# Altium integrated library Linear Technology Power Management PMIC Multifunction.IntLib: 360 symbols (part 25 of 42)
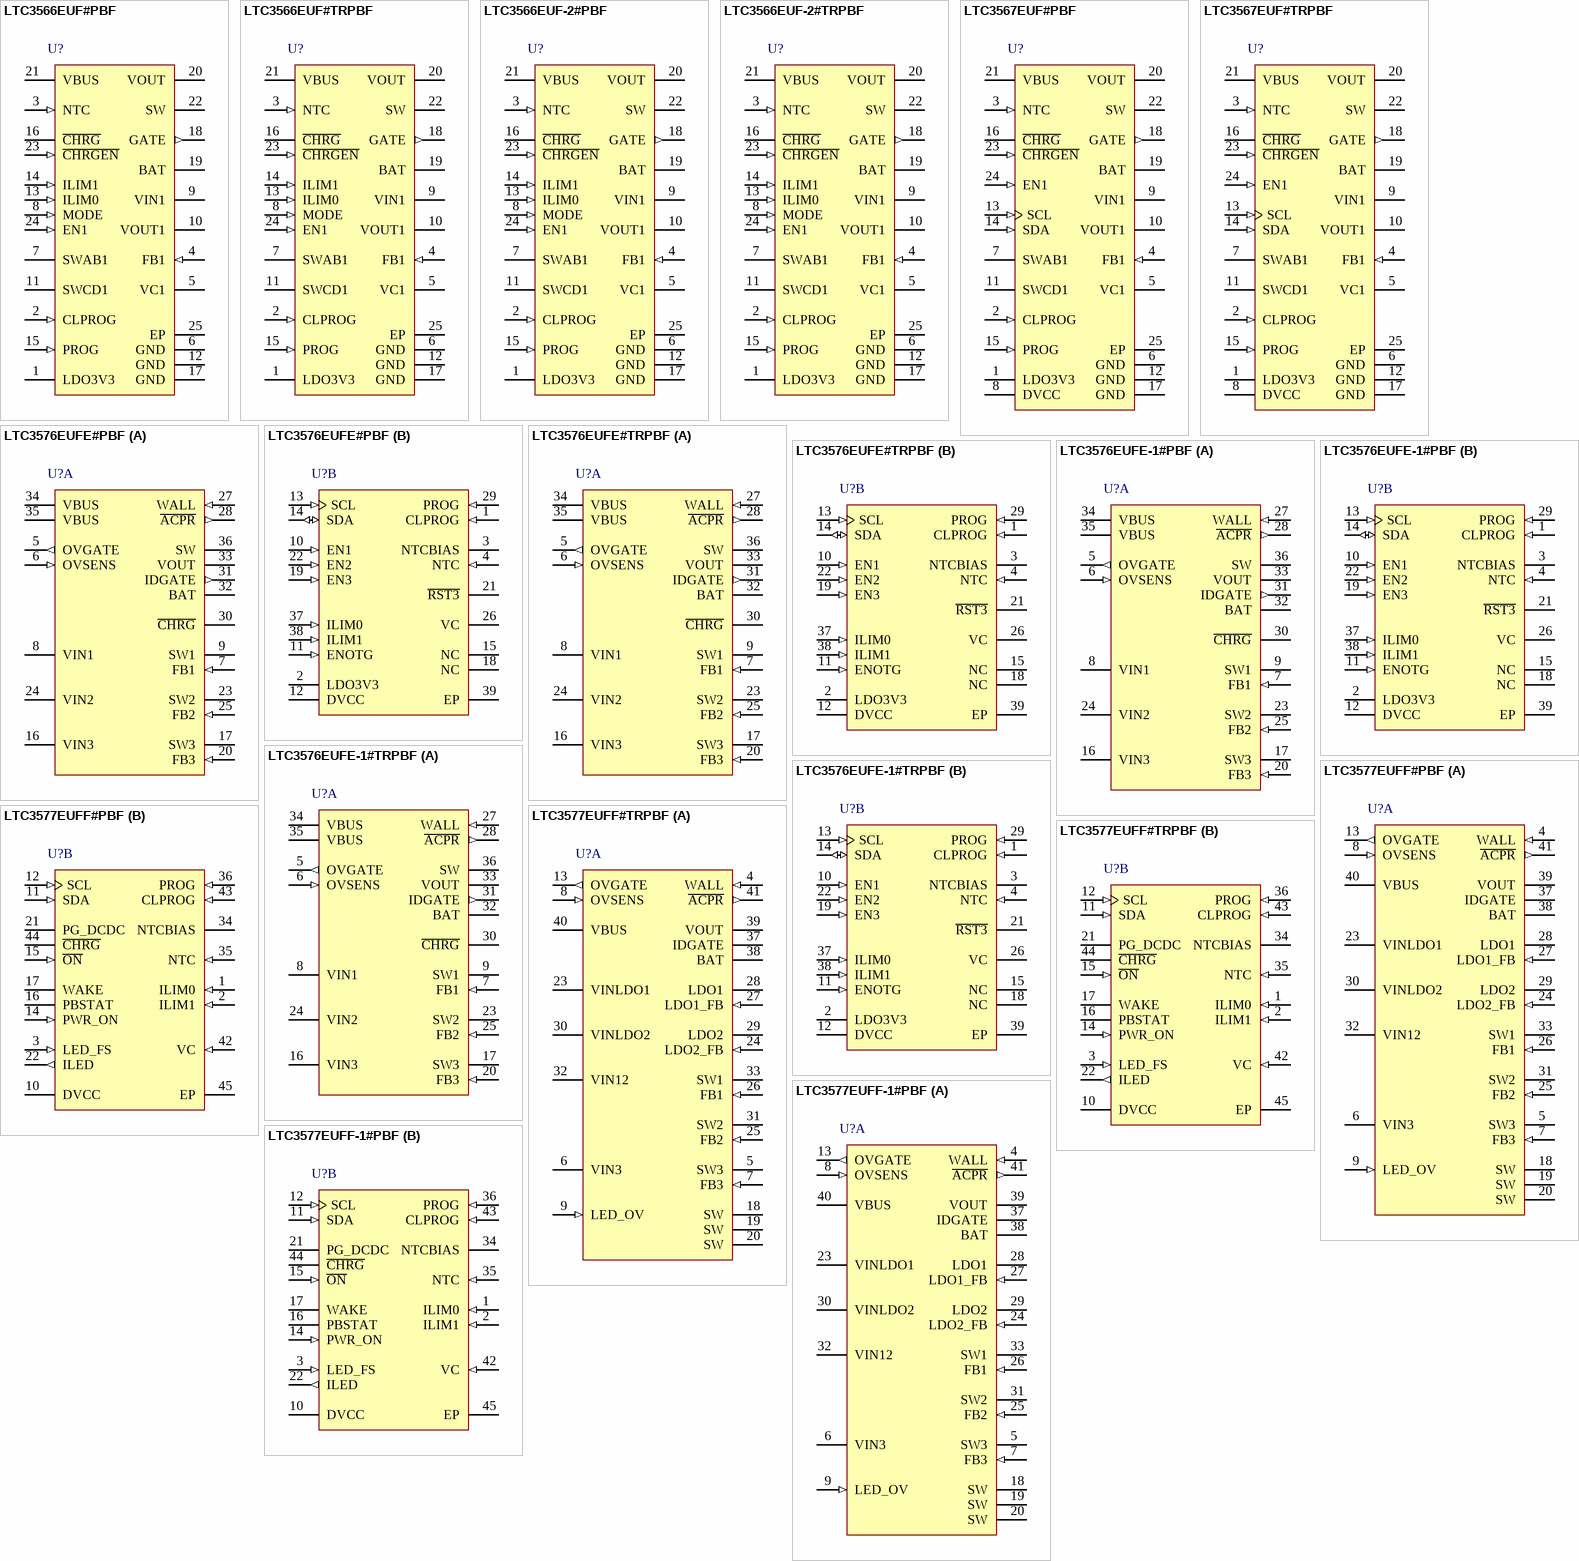
[diagram p42: symbols LTC3566EUF#PBF to LTC3577EUFF-1#PBF]

## LTC3576EUFE-1#PBF
designator U?
Switching Power Manager with USB On-The-Go + Triple Step-Down DC/DC, 4.35 to 5.5 V Vin, 38-pin QFN (UFE-38), -40 to 85 degC, Pb-Free; Manufacturer: Linear Technology; PartNumber: LTC3576EUFE-1#PBF; Number of Cells: 1; Number of Outputs: 3; Vin Max(V): 5.5; Vin Min(V): 4.35; DatasheetVersion: Rev. B; PackageVersion: Rev. B, 03/2012; PackageReference: UFE-38; PackageDescription: 38-Pin Plastic QFN, Body 4 x 6 mm, Pitch 0.4 mm; Supplier 1: Digi-Key; Supplier Part Number 1: LTC3576EUFE-1#PBF-ND; Supplier 2: Farnell; Supplier Part Number 2: 1673551; Supplier 3: Farnell; Supplier Part Number 3: 1671954; Supplier 4: Newark; Supplier Part Number 4: 12P6565; RoHS: TRUE; Mounting Technology: Surface Mount; ComponentLink1Description: Manufacturer URL; ComponentLink1URL: http://www.linear.com/; ComponentLink2Description: Datasheet; ComponentLink2URL: http://cds.linear.com/docs/en/datasheet/3576fb.pdf; ComponentLink3Description: Package Specification; ComponentLink3URL: http://cds.linear.com/docs/en/datasheet/358623f.pdf
footprint LT-UFE-38_N (QFN, 38-Leads, Body 6.1x4.1mm, Pitch 0.4mm, Thermal Pad 2.65x4.65mm, IPC Medium Density)
footprint LT-UFE-38_L (QFN, 38-Leads, Body 6.1x4.1mm, Pitch 0.4mm, Thermal Pad 2.65x4.65mm, IPC High Density)
footprint LT-UFE-38_M (QFN, 38-Leads, Body 6.1x4.1mm, Pitch 0.4mm, Thermal Pad 2.65x4.65mm, IPC Low Density)
part A pins: 5 OVGATE (out) "Overvoltage Protection Gate Output. Connect OVGATE to the gate pin of an external N-channel MOS pass transistor. The source of the transistor should be connected to VBUS and the drain should be connected to the product’(See Datasheet)", 6 OVSENS (in) "Overvoltage Protection Sense Input. OVSENS should be connected through a 6.2k resistor to the input power connector and the drain of an external N-channel MOS pass transistor. When the voltage on this pin exceeds VOVCUTOFF, (See Datasheet)", 7 FB1 (in) "Feedback Input for Switching Regulator 1. When regulator 1’s control loop is complete, this pin servos to 1 of 16 possible set points based on the commanded value from the I2C serial port.", 8 VIN1 (power) "Power Input for Switching Regulator 1. This pin will generally be connected to VOUT. A 1uF MLCC capacitor is recommended on this pin.", 9 SW1 "Power Transmission Pin for Switching Regulator 1.", 16 VIN3 (power) "Power Input for Switching Regulator 3. This pin will generally be connected to VOUT. A 1uF MLCC capacitor is recommended on this pin.", 17 SW3 "Power Transmission Pin for Switching Regulator 3.", 20 FB3 (in) "Feedback Input for Switching Regulator 3. When regulator 3’s control loop is complete, this pin servos to 1 of 16 possible set points based on the commanded value from the I2C serial port.", 23 SW2 "Power Transmission Pin for Switching Regulator 2.", 24 VIN2 (power) "Power Input for Switching Regulator 2. This pin will generally be connected to VOUT. A 1uF MLCC capacitor is recommended on this pin.", 25 FB2 (in) "Feedback Input for Switching Regulator 2. When regulator 2’s control loop is complete, this pin servos to 1 of 16 possible set points based on the commanded value from the I2C serial port.", 27 WALL (in) "External Power Source Sense Input. WALL should be connected to the output of the external high voltage switching regulator and to the drain of an external P-channel MOSFET if used. It is used to determine when power is (See Datasheet)", 28 ~{ACPR} (out) "External Power Source Present Output (Active Low). A\C\P\R\ indicates that the output of the external high voltage step-down switching regulator is suitable for use by the LTC3576/LTC3576-1. It should be connected to the (See Datasheet)", 30 ~{CHRG} (hiz) "Open-Drain Charge Status Output. The C\H\R\G\ pin indicates the status of the battery charger. Four possible charger states are represented by C\H\R\G\: charging, not charging, unresponsive battery and battery temperature (See Datasheet)", 31 IDGATE (out) "Ideal Diode Amplifier Output. This pin controls the gate of an optional external P-channel MOSFET used as an ideal diode between VOUT and BAT. The external ideal diode operates in parallel with the internal ideal diode. The (See Datasheet)", 32 BAT (power) "Single Cell Li-Ion Battery Pin. Depending on available VBUS power, a Li-Ion battery on BAT will either deliver power to VOUT through the ideal diode or be charged from VOUT via the battery charger.", 33 VOUT (power) "Output Voltage of the Bidirectional PowerPath Switching Regulator in step-down mode and Input Voltage of the Battery Charger. The majority of the portable product should be powered from VOUT. The LTC3576/LTC3576-1 will (See Datasheet)", 34 VBUS (power) "Power Pins. These pins deliver power to VOUT via the SW pin by drawing controlled current from a DC source such as a USB port or DC output wall adapter. In on-the-go mode these pins provide power to external loads. Tie the (See Datasheet)", 35 VBUS (power) "Power Pins. These pins deliver power to VOUT via the SW pin by drawing controlled current from a DC source such as a USB port or DC output wall adapter. In on-the-go mode these pins provide power to external loads. Tie the (See Datasheet)", 36 SW (power) "The SW pin transfers power between VBUS and VOUT via the bidirectional switching regulator. See the Applications Information section for a discussion of inductance value and current rating."
part B pins: 1 CLPROG (in) "USB Current Limit Program and Monitor Pin. A 1% resistor from CLPROG to ground determines the upper limit of the current drawn or sourced from the VBUS pins. A precise fraction, hCLPROG, of the VBUS current is sent to the (See Datasheet)", 2 LDO3V3 (power) "3.3V LDO Output Pin. This pin provides a regulated always-on 3.3V supply voltage. LDO3V3 gets its power from VOUT. It may be used for light loads such as a watchdog microprocessor or real time clock. A 1uF capacitor is (See Datasheet)", 3 NTCBIAS "NTC Thermistor Bias Output. If NTC operation is desired, connect a bias resistor between NTCBIAS and NTC, and an NTC thermistor between NTC and GND. To disable NTC operation, connect NTC to GND and leave NTCBIAS open.", 4 NTC (in) "Input to the Thermistor Monitoring Circuits. The NTC pin connects to a negative temperature coeffi cient thermistor, which is typically co-packaged with the battery, to determine if the battery is too hot or too cold to (See Datasheet)", 10 EN1 (in) "Logic Input. This logic input pin independently enables switching regulator 1. Active high. This pin is logically ORed with its corresponding bit in the I2C serial port. See Table 3. Has a 2uA internal pull-down current (See Datasheet)", 11 ENOTG (in) "Logic Input. This logic input pin independently enables the bidirectional switching regulator to step up the voltage on VOUT and provide a 5V output on VBUS for USB on-the-go applications. Active high. This pin is logically (See Datasheet)", 12 DVCC (power) "Logic Supply for the I2C Serial Port. If the serial port is not needed, it can be disabled by grounding DVCC. When DVCC is grounded, the I2C bits are set to their default values.", 13 SCL (in) "Clock Input Pin for the I2C Serial Port. The I2C logic levels are scaled with respect to DVCC. If DVCC is grounded, the SCL pin is equivalent to the C2, C4 and C6 bits in the I2C serial port. SCL in conjunction with SDA (See Datasheet)", 14 SDA (io) "Data Input Pin for the I2C Serial Port. The I2C logic levels are scaled with respect to DVCC. If DVCC is grounded, the SDA pin is equivalent to the C3, C5 and C7 bits in the I2C serial port. SDA in conjunction with SCL (See Datasheet)", 15 NC "Unconnected Pin. This pin is not connected internally to the part. It is permissible to tie this pin to VIN3 in order to make the VIN3 PCB trace wider.", 18 NC "Unconnected Pin. This pin is not connected internally to the part. It is permissible to tie this pin to SW3 in order to make the SW3 PCB trace wider.", 19 EN3 (in) "Logic Input. This logic input pin independently enables switching regulator 3. Active high. This pin is logically ORed with its corresponding bit in the I2C serial port. See Table 3. Has a 2uA internal pull-down current (See Datasheet)", 21 ~{RST3} (hiz) "Logic Output. This in an open-drain output which indicates that switching regulator 3 has settled to its fi nal value. It can be used as a power-on reset for the primary microprocessor or to enable the other switching (See Datasheet)", 22 EN2 (in) "Logic Input. This logic input pin independently enables switching regulator 2. Active high. This pin is logically ORed with its corresponding bit in the I2C serial port. See Table 3. Has a 2uA internal pull-down current (See Datasheet)", 26 VC "Bat-Track External Switching Regulator Control Output. This pin drives the VC pin of an external Linear Technology step-down switching regulator. An external P-channel MOSFET is sometimes required to provide power to VOUT (See Datasheet)", 29 PROG (in) "Charge Current Program and Charge Current Monitor Pin. Connecting a 1% resistor from PROG to ground programs the charge current. If suffi cient input power is available in constant-current mode, this pin servos to 1V.", 37 ILIM0 (in) "ILIM0 and ILIM1 control the current limit of the PowerPath switching regulator. See Table 1. Both the ILIM0 and ILIM1 pins are logically ORed with their corresponding bits in the I2C serial port. See Tables 3 and 6. Each has (See Datasheet)", 38 ILIM1 (in) "ILIM0 and ILIM1 control the current limit of the PowerPath switching regulator. See Table 1. Both the ILIM0 and ILIM1 pins are logically ORed with their corresponding bits in the I2C serial port. See Tables 3 and 6. Each has (See Datasheet)", 39 EP (power) "Ground. The Exposed Pad should be connected to a continuous ground plane on the second layer of the printed circuit board by several vias directly under the LTC3576/LTC3576-1."

## LTC3576EUFE-1#TRPBF
designator U?
Switching Power Manager with USB On-The-Go + Triple Step-Down DC/DC, 4.35 to 5.5 V Vin, 38-pin QFN (UFE-38), -40 to 85 degC, Pb-Free, Tape and Reel; Manufacturer: Linear Technology; PartNumber: LTC3576EUFE-1#TRPBF; Number of Cells: 1; Number of Outputs: 3; Vin Max(V): 5.5; Vin Min(V): 4.35; DatasheetVersion: Rev. B; PackageVersion: Rev. B, 03/2012; PackageReference: UFE-38; PackageDescription: 38-Pin Plastic QFN, Body 4 x 6 mm, Pitch 0.4 mm; Supplier 1: Digi-Key; Supplier Part Number 1: LTC3576EUFE-1#TRPBF-ND; Packing: Tape and Reel; RoHS: TRUE; Mounting Technology: Surface Mount; ComponentLink1Description: Manufacturer URL; ComponentLink1URL: http://www.linear.com/; ComponentLink2Description: Datasheet; ComponentLink2URL: http://cds.linear.com/docs/en/datasheet/3576fb.pdf; ComponentLink3Description: Package Specification; ComponentLink3URL: http://cds.linear.com/docs/en/datasheet/358623f.pdf
footprint LT-UFE-38_N (QFN, 38-Leads, Body 6.1x4.1mm, Pitch 0.4mm, Thermal Pad 2.65x4.65mm, IPC Medium Density)
footprint LT-UFE-38_L (QFN, 38-Leads, Body 6.1x4.1mm, Pitch 0.4mm, Thermal Pad 2.65x4.65mm, IPC High Density)
footprint LT-UFE-38_M (QFN, 38-Leads, Body 6.1x4.1mm, Pitch 0.4mm, Thermal Pad 2.65x4.65mm, IPC Low Density)
part A pins: 5 OVGATE (out) "Overvoltage Protection Gate Output. Connect OVGATE to the gate pin of an external N-channel MOS pass transistor. The source of the transistor should be connected to VBUS and the drain should be connected to the product’(See Datasheet)", 6 OVSENS (in) "Overvoltage Protection Sense Input. OVSENS should be connected through a 6.2k resistor to the input power connector and the drain of an external N-channel MOS pass transistor. When the voltage on this pin exceeds VOVCUTOFF, (See Datasheet)", 7 FB1 (in) "Feedback Input for Switching Regulator 1. When regulator 1’s control loop is complete, this pin servos to 1 of 16 possible set points based on the commanded value from the I2C serial port.", 8 VIN1 (power) "Power Input for Switching Regulator 1. This pin will generally be connected to VOUT. A 1uF MLCC capacitor is recommended on this pin.", 9 SW1 "Power Transmission Pin for Switching Regulator 1.", 16 VIN3 (power) "Power Input for Switching Regulator 3. This pin will generally be connected to VOUT. A 1uF MLCC capacitor is recommended on this pin.", 17 SW3 "Power Transmission Pin for Switching Regulator 3.", 20 FB3 (in) "Feedback Input for Switching Regulator 3. When regulator 3’s control loop is complete, this pin servos to 1 of 16 possible set points based on the commanded value from the I2C serial port.", 23 SW2 "Power Transmission Pin for Switching Regulator 2.", 24 VIN2 (power) "Power Input for Switching Regulator 2. This pin will generally be connected to VOUT. A 1uF MLCC capacitor is recommended on this pin.", 25 FB2 (in) "Feedback Input for Switching Regulator 2. When regulator 2’s control loop is complete, this pin servos to 1 of 16 possible set points based on the commanded value from the I2C serial port.", 27 WALL (in) "External Power Source Sense Input. WALL should be connected to the output of the external high voltage switching regulator and to the drain of an external P-channel MOSFET if used. It is used to determine when power is (See Datasheet)", 28 ~{ACPR} (out) "External Power Source Present Output (Active Low). A\C\P\R\ indicates that the output of the external high voltage step-down switching regulator is suitable for use by the LTC3576/LTC3576-1. It should be connected to the (See Datasheet)", 30 ~{CHRG} (hiz) "Open-Drain Charge Status Output. The C\H\R\G\ pin indicates the status of the battery charger. Four possible charger states are represented by C\H\R\G\: charging, not charging, unresponsive battery and battery temperature (See Datasheet)", 31 IDGATE (out) "Ideal Diode Amplifier Output. This pin controls the gate of an optional external P-channel MOSFET used as an ideal diode between VOUT and BAT. The external ideal diode operates in parallel with the internal ideal diode. The (See Datasheet)", 32 BAT (power) "Single Cell Li-Ion Battery Pin. Depending on available VBUS power, a Li-Ion battery on BAT will either deliver power to VOUT through the ideal diode or be charged from VOUT via the battery charger.", 33 VOUT (power) "Output Voltage of the Bidirectional PowerPath Switching Regulator in step-down mode and Input Voltage of the Battery Charger. The majority of the portable product should be powered from VOUT. The LTC3576/LTC3576-1 will (See Datasheet)", 34 VBUS (power) "Power Pins. These pins deliver power to VOUT via the SW pin by drawing controlled current from a DC source such as a USB port or DC output wall adapter. In on-the-go mode these pins provide power to external loads. Tie the (See Datasheet)", 35 VBUS (power) "Power Pins. These pins deliver power to VOUT via the SW pin by drawing controlled current from a DC source such as a USB port or DC output wall adapter. In on-the-go mode these pins provide power to external loads. Tie the (See Datasheet)", 36 SW (power) "The SW pin transfers power between VBUS and VOUT via the bidirectional switching regulator. See the Applications Information section for a discussion of inductance value and current rating."
part B pins: 1 CLPROG (in) "USB Current Limit Program and Monitor Pin. A 1% resistor from CLPROG to ground determines the upper limit of the current drawn or sourced from the VBUS pins. A precise fraction, hCLPROG, of the VBUS current is sent to the (See Datasheet)", 2 LDO3V3 (power) "3.3V LDO Output Pin. This pin provides a regulated always-on 3.3V supply voltage. LDO3V3 gets its power from VOUT. It may be used for light loads such as a watchdog microprocessor or real time clock. A 1uF capacitor is (See Datasheet)", 3 NTCBIAS "NTC Thermistor Bias Output. If NTC operation is desired, connect a bias resistor between NTCBIAS and NTC, and an NTC thermistor between NTC and GND. To disable NTC operation, connect NTC to GND and leave NTCBIAS open.", 4 NTC (in) "Input to the Thermistor Monitoring Circuits. The NTC pin connects to a negative temperature coeffi cient thermistor, which is typically co-packaged with the battery, to determine if the battery is too hot or too cold to (See Datasheet)", 10 EN1 (in) "Logic Input. This logic input pin independently enables switching regulator 1. Active high. This pin is logically ORed with its corresponding bit in the I2C serial port. See Table 3. Has a 2uA internal pull-down current (See Datasheet)", 11 ENOTG (in) "Logic Input. This logic input pin independently enables the bidirectional switching regulator to step up the voltage on VOUT and provide a 5V output on VBUS for USB on-the-go applications. Active high. This pin is logically (See Datasheet)", 12 DVCC (power) "Logic Supply for the I2C Serial Port. If the serial port is not needed, it can be disabled by grounding DVCC. When DVCC is grounded, the I2C bits are set to their default values.", 13 SCL (in) "Clock Input Pin for the I2C Serial Port. The I2C logic levels are scaled with respect to DVCC. If DVCC is grounded, the SCL pin is equivalent to the C2, C4 and C6 bits in the I2C serial port. SCL in conjunction with SDA (See Datasheet)", 14 SDA (io) "Data Input Pin for the I2C Serial Port. The I2C logic levels are scaled with respect to DVCC. If DVCC is grounded, the SDA pin is equivalent to the C3, C5 and C7 bits in the I2C serial port. SDA in conjunction with SCL (See Datasheet)", 15 NC "Unconnected Pin. This pin is not connected internally to the part. It is permissible to tie this pin to VIN3 in order to make the VIN3 PCB trace wider.", 18 NC "Unconnected Pin. This pin is not connected internally to the part. It is permissible to tie this pin to SW3 in order to make the SW3 PCB trace wider.", 19 EN3 (in) "Logic Input. This logic input pin independently enables switching regulator 3. Active high. This pin is logically ORed with its corresponding bit in the I2C serial port. See Table 3. Has a 2uA internal pull-down current (See Datasheet)", 21 ~{RST3} (hiz) "Logic Output. This in an open-drain output which indicates that switching regulator 3 has settled to its fi nal value. It can be used as a power-on reset for the primary microprocessor or to enable the other switching (See Datasheet)", 22 EN2 (in) "Logic Input. This logic input pin independently enables switching regulator 2. Active high. This pin is logically ORed with its corresponding bit in the I2C serial port. See Table 3. Has a 2uA internal pull-down current (See Datasheet)", 26 VC "Bat-Track External Switching Regulator Control Output. This pin drives the VC pin of an external Linear Technology step-down switching regulator. An external P-channel MOSFET is sometimes required to provide power to VOUT (See Datasheet)", 29 PROG (in) "Charge Current Program and Charge Current Monitor Pin. Connecting a 1% resistor from PROG to ground programs the charge current. If suffi cient input power is available in constant-current mode, this pin servos to 1V.", 37 ILIM0 (in) "ILIM0 and ILIM1 control the current limit of the PowerPath switching regulator. See Table 1. Both the ILIM0 and ILIM1 pins are logically ORed with their corresponding bits in the I2C serial port. See Tables 3 and 6. Each has (See Datasheet)", 38 ILIM1 (in) "ILIM0 and ILIM1 control the current limit of the PowerPath switching regulator. See Table 1. Both the ILIM0 and ILIM1 pins are logically ORed with their corresponding bits in the I2C serial port. See Tables 3 and 6. Each has (See Datasheet)", 39 EP (power) "Ground. The Exposed Pad should be connected to a continuous ground plane on the second layer of the printed circuit board by several vias directly under the LTC3576/LTC3576-1."

## LTC3577EUFF#PBF
designator U?
Highly Integrated 6-Channel Portable PMIC, 4.35 to 5.5 V Vin, 44-pin QFN (UFF-44-V-UFF44MA), -40 to 85 degC, Pb-Free; Manufacturer: Linear Technology; PartNumber: LTC3577EUFF#PBF; Number of Cells: 1; Number of Outputs: 6; Vin Max(V): 5.5; Vin Min(V): 4.35; DatasheetVersion: Rev. A; PackageVersion: Rev. A, 06/2010; PackageReference: UFF-44; PackageDescription: 44-Pin Plastic QFN, Body 4 x 7 mm, Pitch 0.4 mm; Supplier 1: Digi-Key; Supplier Part Number 1: LTC3577EUFF#PBF-ND; Supplier 2: Newark; Supplier Part Number 2: 72R5679; RoHS: TRUE; Mounting Technology: Surface Mount; ComponentLink1Description: Manufacturer URL; ComponentLink1URL: http://www.linear.com/; ComponentLink2Description: Datasheet; ComponentLink2URL: http://cds.linear.com/docs/en/datasheet/3577fa.pdf; ComponentLink3Description: Package Specification; ComponentLink3URL: http://cds.linear.com/docs/en/packaging/QFN_44_05-08-1762.pdf
footprint LT-UFF-44-V-UFF44MA_V (QFN, 44-Leads, Body 7x4mm, Pitch 0.4mm, Thermal Pad 3.26x2.64mm)
part A pins: 4 WALL (in) "Wall Adapter Present Input. Pulling this pin above 4.3V will disconnect the power path from VBUS to VOUT . The A\C\P\R\ pin will also be pulled low to indicate that a wall adapter has been detected.", 5 SW3 (power) "Power Transmission (Switch) Pin for Step- Down Switching Regulator 3 (buck3).", 6 VIN3 (power) "Power Input for Step-Down Switching Regulator 3. This pin should be connected to VOUT .", 7 FB3 (in) "Feedback Input for Step-Down Switching Regulator 3 (buck3). This pin servos to a fixed voltage of 0.8V when the control loop is complete.", 8 OVSENS (in) "Overvoltage Protection Sense Input. OVSENSE should be connected through a 6.2k resistor to the input power connector and the drain of an external N-channel MOS pass transistor. When the voltage on this pin exceeds a preset (See Datasheet)", 9 LED_OV (in) "A resistor between this pin and the boosted LED backlight voltage sets the overvoltage limit on the boost output. If the boost voltage exceeds the programmed limit the LED boost converter will be disabled.", 13 OVGATE (out) "Overvoltage Protection Gate Output. Connect OVGATE to the gate pin of an external N-channel MOS pass transistor. The source of the transistor should be connected to VBUS and the drain should be connected to the product’(See Datasheet)", 18 SW (power) "Power Transmission (Switch) Pin for LED Boost Converter. See the “LED Backlight/Boost Operation” section for circuit hook-up and component selection. I2C is used to control LED driver enable. I2C default is LED dri(See Datasheet)", 19 SW (power) "Power Transmission (Switch) Pin for LED Boost Converter. See the “LED Backlight/Boost Operation” section for circuit hook-up and component selection. I2C is used to control LED driver enable. I2C default is LED dri(See Datasheet)", 20 SW (power) "Power Transmission (Switch) Pin for LED Boost Converter. See the “LED Backlight/Boost Operation” section for circuit hook-up and component selection. I2C is used to control LED driver enable. I2C default is LED dri(See Datasheet)", 23 VINLDO1 (power) "Input Supply of Low Dropout Linear Regulator 1 (LDO1). This pin should be bypassed to ground with a 1uF or greater ceramic capacitor.", 24 LDO2_FB (in) "Feedback Voltage Input for Low Dropout Linear Regulator 2 (LDO2). LDO2 output voltage is set using an external resistor divider between LDO2 and LDO2_FB.", 25 FB2 (in) "Feedback Input for Step-Down Switching Regulator 2 (buck2). This pin servos to a fixed voltage of 0.8V when the control loop is complete.", 26 FB1 (in) "Feedback Input for Step-Down Switching Regulator 1 (buck1). This pin servos to a fixed voltage of 0.8V when the control loop is complete.", 27 LDO1_FB (in) "Feedback Voltage Input for Low Dropout Linear Regulator 1 (LDO1). LDO1 output voltage is set using an external resistor divider between LDO1 and LDO1_FB.", 28 LDO1 (power) "Output of Low Dropout Linear Regulator 1. This pin must be bypassed to ground with a 1uF or greater ceramic capacitor.", 29 LDO2 (power) "Output of Low Dropout Linear Regulator 2. This pin must be bypassed to ground with a 1uF or greater ceramic capacitor.", 30 VINLDO2 (power) "Input Supply of Low Dropout Linear Regulator 2 (LDO2). This pin should be bypassed to ground with a 1uF or greater ceramic capacitor.", 31 SW2 (power) "Power Transmission (Switch) Pin for Step- Down Switching Regulator 2 (buck2).", 32 VIN12 (power) "Power Input for Step-Down Switching Regulators 1 and 2. This pin will generally be connected to VOUT .", 33 SW1 (power) "Power Transmission (Switch) Pin for Step- Down Switching Regulator 1 (buck1).", 37 IDGATE (hiz) "Ideal Diode Gate Connection. This pin controls the gate of an optional external P-channel MOSFET transistor used to supplement the internal ideal diode. The source of the P-channel MOSFET should be connected to VOUT and the (See Datasheet)", 38 BAT (power) "Single Cell Li-Ion Battery Pin. Depending on available power and load, a Li-Ion battery on BAT will either deliver system power to VOUT through the ideal diode or be charged from the battery charger.", 39 VOUT (power) "Output Voltage of the PowerPath Controller and Input Voltage of the Battery Charger. The majority of the portable product should be powered from VOUT . The LTC3577 will partition the available power between the external load (See Datasheet)", 40 VBUS (power) "USB Input Voltage. VBUS will usually be connected to the USB port of a computer or a DC output wall adapter. VBUS should be bypassed with a low impedance multilayer ceramic capacitor.", 41 ~{ACPR} (out) "Wall Adapter Present Output (Active Low). A low on this pin indicates that the wall adapter input comparator has had its input pulled above its input threshold (typically 4.3V). This pin can be used to drive the gate of an (See Datasheet)"
part B pins: 1 ILIM0 (in) "Input Current Control Pins. ILIM0 and ILIM1 control the input current limit. See Table 1 in the “USB PowerPath Controller” section. Both pins are pulled low by a weak current sink.", 2 ILIM1 (in) "Input Current Control Pins. ILIM0 and ILIM1 control the input current limit. See Table 1 in the “USB PowerPath Controller” section. Both pins are pulled low by a weak current sink.", 3 LED_FS (in) "A resistor between this pin and ground sets the full-scale output current of the ILED pin.", 10 DVCC (power) "Supply Voltage for I2C Lines. This pin sets the logic reference level of the LTC3577. A UVLO circuit on the DVCC pin forces all registers to all 0s whenever DVCC is <1V. Bypass to GND with a 0.1uF capacitor.", 11 SDA (in) "I2C Data Input. Serial data is shifted one bit per clock to control the LTC3577. The logic level for SDA is referenced to DVCC.", 12 SCL (in) "I2C Clock Input. The logic level for SCL is referenced to DVCC.", 14 PWR_ON (in) "Logic Input Used to Keep Buck DC/DCs Enabled After Power-Up. May also be used to enable the buck DC/DCs directly (sequence = buck1 ? buck2 ? buck3). See the “Pushbutton Interface Operation” section for more information.", 15 ~{ON} (in) "Pushbutton Input. A weak internal pull-up forces O\N\ high when left floating. A normally open pushbutton is connected from O\N\ to ground to force a low state on this pin.", 16 PBSTAT (oc) "Open-drain output is a de-bounced and buffered version of O\N\ to be used for processor interrupts.", 17 WAKE (hiz) "Open-Drain Output. The WAKE pin indicates the operating state of the buck DC/DCs. If WAKE is Hi-Z, the buck DC/DCs are enabled and either up or powering up. A low on WAKE indicates that the buck DC/DCs are either powered (See Datasheet)", 21 PG_DCDC (hiz) "Open-Drain Output. PG_DCDC goes high impedance 230ms after all buck DC/DCs are in regulation (within 8% of final value).", 22 ILED (out) "Series LED Backlight Current Sink Output. This pin is connected to the cathode end of the series LED backlight string. The current drawn through the series LEDs can be programmed via a 6-bit 60dB DAC and dimmed via an (See Datasheet)", 34 NTCBIAS (power) "Output Bias Voltage for NTC. A resistor from this pin to the NTC pin will bias the NTC thermistor.", 35 NTC (in) "The NTC pin connects to a battery’s thermistor to determine if the battery is too hot or too cold to charge. If the battery’s temperature is out of range, charging is paused until it drops back into range. A low dr(See Datasheet)", 36 PROG (in) "Charge Current Program and Charge Current Monitor Pin. Connecting a resistor from PROG to ground programs the charge current: ICHG = 1000V/RPROG (A) If sufficient input power is available in constant current mode, this pin (See Datasheet)", 42 VC (in) "High Voltage Buck Regulator Control Pin. This pin can be used to drive the VC pin of an approved external high voltage buck switching regulator. The VC pin is designed to work with the LT(R)3480, LT3653 and LT3505. Consult (See Datasheet)", 43 CLPROG (in) "Input Current Program and Input Current Monitor Pin. A resistor from CLPROG to ground determines the upper limit of the current drawn from the VBUS pin (i.e., the input current limit). A precise fraction of the input (See Datasheet)", 44 ~{CHRG} (hiz) "Open-Drain Charge Status Output. The C\H\R\G\ pin indicates the status of the battery charger. If C\H\R\G\ is high then the charger is near the float voltage (charge current less than 1/10th programmed charge current) or (See Datasheet)", 45 EP (power) "The exposed package pad is ground and must be soldered to PCB ground for electrical contact and rated thermal performance."

## LTC3577EUFF#TRPBF
designator U?
Highly Integrated 6-Channel Portable PMIC, 4.35 to 5.5 V Vin, 44-pin QFN (UFF-44-V-UFF44MA), -40 to 85 degC, Pb-Free, Tape and Reel; Manufacturer: Linear Technology; PartNumber: LTC3577EUFF#TRPBF; Number of Cells: 1; Number of Outputs: 6; Vin Max(V): 5.5; Vin Min(V): 4.35; DatasheetVersion: Rev. A; PackageVersion: Rev. A, 06/2010; PackageReference: UFF-44; PackageDescription: 44-Pin Plastic QFN, Body 4 x 7 mm, Pitch 0.4 mm; Supplier 1: Digi-Key; Supplier Part Number 1: LTC3577EUFF#TRPBF-ND; Packing: Tape and Reel; RoHS: TRUE; Mounting Technology: Surface Mount; ComponentLink1Description: Manufacturer URL; ComponentLink1URL: http://www.linear.com/; ComponentLink2Description: Datasheet; ComponentLink2URL: http://cds.linear.com/docs/en/datasheet/3577fa.pdf; ComponentLink3Description: Package Specification; ComponentLink3URL: http://cds.linear.com/docs/en/packaging/QFN_44_05-08-1762.pdf
footprint LT-UFF-44-V-UFF44MA_V (QFN, 44-Leads, Body 7x4mm, Pitch 0.4mm, Thermal Pad 3.26x2.64mm)
part A pins: 4 WALL (in) "Wall Adapter Present Input. Pulling this pin above 4.3V will disconnect the power path from VBUS to VOUT . The A\C\P\R\ pin will also be pulled low to indicate that a wall adapter has been detected.", 5 SW3 (power) "Power Transmission (Switch) Pin for Step- Down Switching Regulator 3 (buck3).", 6 VIN3 (power) "Power Input for Step-Down Switching Regulator 3. This pin should be connected to VOUT .", 7 FB3 (in) "Feedback Input for Step-Down Switching Regulator 3 (buck3). This pin servos to a fixed voltage of 0.8V when the control loop is complete.", 8 OVSENS (in) "Overvoltage Protection Sense Input. OVSENSE should be connected through a 6.2k resistor to the input power connector and the drain of an external N-channel MOS pass transistor. When the voltage on this pin exceeds a preset (See Datasheet)", 9 LED_OV (in) "A resistor between this pin and the boosted LED backlight voltage sets the overvoltage limit on the boost output. If the boost voltage exceeds the programmed limit the LED boost converter will be disabled.", 13 OVGATE (out) "Overvoltage Protection Gate Output. Connect OVGATE to the gate pin of an external N-channel MOS pass transistor. The source of the transistor should be connected to VBUS and the drain should be connected to the product’(See Datasheet)", 18 SW (power) "Power Transmission (Switch) Pin for LED Boost Converter. See the “LED Backlight/Boost Operation” section for circuit hook-up and component selection. I2C is used to control LED driver enable. I2C default is LED dri(See Datasheet)", 19 SW (power) "Power Transmission (Switch) Pin for LED Boost Converter. See the “LED Backlight/Boost Operation” section for circuit hook-up and component selection. I2C is used to control LED driver enable. I2C default is LED dri(See Datasheet)", 20 SW (power) "Power Transmission (Switch) Pin for LED Boost Converter. See the “LED Backlight/Boost Operation” section for circuit hook-up and component selection. I2C is used to control LED driver enable. I2C default is LED dri(See Datasheet)", 23 VINLDO1 (power) "Input Supply of Low Dropout Linear Regulator 1 (LDO1). This pin should be bypassed to ground with a 1uF or greater ceramic capacitor.", 24 LDO2_FB (in) "Feedback Voltage Input for Low Dropout Linear Regulator 2 (LDO2). LDO2 output voltage is set using an external resistor divider between LDO2 and LDO2_FB.", 25 FB2 (in) "Feedback Input for Step-Down Switching Regulator 2 (buck2). This pin servos to a fixed voltage of 0.8V when the control loop is complete.", 26 FB1 (in) "Feedback Input for Step-Down Switching Regulator 1 (buck1). This pin servos to a fixed voltage of 0.8V when the control loop is complete.", 27 LDO1_FB (in) "Feedback Voltage Input for Low Dropout Linear Regulator 1 (LDO1). LDO1 output voltage is set using an external resistor divider between LDO1 and LDO1_FB.", 28 LDO1 (power) "Output of Low Dropout Linear Regulator 1. This pin must be bypassed to ground with a 1uF or greater ceramic capacitor.", 29 LDO2 (power) "Output of Low Dropout Linear Regulator 2. This pin must be bypassed to ground with a 1uF or greater ceramic capacitor.", 30 VINLDO2 (power) "Input Supply of Low Dropout Linear Regulator 2 (LDO2). This pin should be bypassed to ground with a 1uF or greater ceramic capacitor.", 31 SW2 (power) "Power Transmission (Switch) Pin for Step- Down Switching Regulator 2 (buck2).", 32 VIN12 (power) "Power Input for Step-Down Switching Regulators 1 and 2. This pin will generally be connected to VOUT .", 33 SW1 (power) "Power Transmission (Switch) Pin for Step- Down Switching Regulator 1 (buck1).", 37 IDGATE (hiz) "Ideal Diode Gate Connection. This pin controls the gate of an optional external P-channel MOSFET transistor used to supplement the internal ideal diode. The source of the P-channel MOSFET should be connected to VOUT and the (See Datasheet)", 38 BAT (power) "Single Cell Li-Ion Battery Pin. Depending on available power and load, a Li-Ion battery on BAT will either deliver system power to VOUT through the ideal diode or be charged from the battery charger.", 39 VOUT (power) "Output Voltage of the PowerPath Controller and Input Voltage of the Battery Charger. The majority of the portable product should be powered from VOUT . The LTC3577 will partition the available power between the external load (See Datasheet)", 40 VBUS (power) "USB Input Voltage. VBUS will usually be connected to the USB port of a computer or a DC output wall adapter. VBUS should be bypassed with a low impedance multilayer ceramic capacitor.", 41 ~{ACPR} (out) "Wall Adapter Present Output (Active Low). A low on this pin indicates that the wall adapter input comparator has had its input pulled above its input threshold (typically 4.3V). This pin can be used to drive the gate of an (See Datasheet)"
part B pins: 1 ILIM0 (in) "Input Current Control Pins. ILIM0 and ILIM1 control the input current limit. See Table 1 in the “USB PowerPath Controller” section. Both pins are pulled low by a weak current sink.", 2 ILIM1 (in) "Input Current Control Pins. ILIM0 and ILIM1 control the input current limit. See Table 1 in the “USB PowerPath Controller” section. Both pins are pulled low by a weak current sink.", 3 LED_FS (in) "A resistor between this pin and ground sets the full-scale output current of the ILED pin.", 10 DVCC (power) "Supply Voltage for I2C Lines. This pin sets the logic reference level of the LTC3577. A UVLO circuit on the DVCC pin forces all registers to all 0s whenever DVCC is <1V. Bypass to GND with a 0.1uF capacitor.", 11 SDA (in) "I2C Data Input. Serial data is shifted one bit per clock to control the LTC3577. The logic level for SDA is referenced to DVCC.", 12 SCL (in) "I2C Clock Input. The logic level for SCL is referenced to DVCC.", 14 PWR_ON (in) "Logic Input Used to Keep Buck DC/DCs Enabled After Power-Up. May also be used to enable the buck DC/DCs directly (sequence = buck1 ? buck2 ? buck3). See the “Pushbutton Interface Operation” section for more information.", 15 ~{ON} (in) "Pushbutton Input. A weak internal pull-up forces O\N\ high when left floating. A normally open pushbutton is connected from O\N\ to ground to force a low state on this pin.", 16 PBSTAT (oc) "Open-drain output is a de-bounced and buffered version of O\N\ to be used for processor interrupts.", 17 WAKE (hiz) "Open-Drain Output. The WAKE pin indicates the operating state of the buck DC/DCs. If WAKE is Hi-Z, the buck DC/DCs are enabled and either up or powering up. A low on WAKE indicates that the buck DC/DCs are either powered (See Datasheet)", 21 PG_DCDC (hiz) "Open-Drain Output. PG_DCDC goes high impedance 230ms after all buck DC/DCs are in regulation (within 8% of final value).", 22 ILED (out) "Series LED Backlight Current Sink Output. This pin is connected to the cathode end of the series LED backlight string. The current drawn through the series LEDs can be programmed via a 6-bit 60dB DAC and dimmed via an (See Datasheet)", 34 NTCBIAS (power) "Output Bias Voltage for NTC. A resistor from this pin to the NTC pin will bias the NTC thermistor.", 35 NTC (in) "The NTC pin connects to a battery’s thermistor to determine if the battery is too hot or too cold to charge. If the battery’s temperature is out of range, charging is paused until it drops back into range. A low dr(See Datasheet)", 36 PROG (in) "Charge Current Program and Charge Current Monitor Pin. Connecting a resistor from PROG to ground programs the charge current: ICHG = 1000V/RPROG (A) If sufficient input power is available in constant current mode, this pin (See Datasheet)", 42 VC (in) "High Voltage Buck Regulator Control Pin. This pin can be used to drive the VC pin of an approved external high voltage buck switching regulator. The VC pin is designed to work with the LT(R)3480, LT3653 and LT3505. Consult (See Datasheet)", 43 CLPROG (in) "Input Current Program and Input Current Monitor Pin. A resistor from CLPROG to ground determines the upper limit of the current drawn from the VBUS pin (i.e., the input current limit). A precise fraction of the input (See Datasheet)", 44 ~{CHRG} (hiz) "Open-Drain Charge Status Output. The C\H\R\G\ pin indicates the status of the battery charger. If C\H\R\G\ is high then the charger is near the float voltage (charge current less than 1/10th programmed charge current) or (See Datasheet)", 45 EP (power) "The exposed package pad is ground and must be soldered to PCB ground for electrical contact and rated thermal performance."

## LTC3577EUFF-1#PBF
designator U?
Highly Integrated 6-Channel Portable PMIC, 4.35 to 5.5 V Vin, 44-pin QFN (UFF-44-V-UFF44MA), -40 to 85 degC, Pb-Free; Manufacturer: Linear Technology; PartNumber: LTC3577EUFF-1#PBF; Number of Cells: 1; Number of Outputs: 6; Vin Max(V): 5.5; Vin Min(V): 4.35; DatasheetVersion: Rev. A; PackageVersion: Rev. A, 06/2010; PackageReference: UFF-44; PackageDescription: 44-Pin Plastic QFN, Body 4 x 7 mm, Pitch 0.4 mm; Supplier 1: Digi-Key; Supplier Part Number 1: LTC3577EUFF-1#PBF-ND; RoHS: TRUE; Mounting Technology: Surface Mount; ComponentLink1Description: Manufacturer URL; ComponentLink1URL: http://www.linear.com/; ComponentLink2Description: Datasheet; ComponentLink2URL: http://cds.linear.com/docs/en/datasheet/3577fa.pdf; ComponentLink3Description: Package Specification; ComponentLink3URL: http://cds.linear.com/docs/en/packaging/QFN_44_05-08-1762.pdf
footprint LT-UFF-44-V-UFF44MA_V (QFN, 44-Leads, Body 7x4mm, Pitch 0.4mm, Thermal Pad 3.26x2.64mm)
part A pins: 4 WALL (in) "Wall Adapter Present Input. Pulling this pin above 4.3V will disconnect the power path from VBUS to VOUT . The A\C\P\R\ pin will also be pulled low to indicate that a wall adapter has been detected.", 5 SW3 (power) "Power Transmission (Switch) Pin for Step- Down Switching Regulator 3 (buck3).", 6 VIN3 (power) "Power Input for Step-Down Switching Regulator 3. This pin should be connected to VOUT .", 7 FB3 (in) "Feedback Input for Step-Down Switching Regulator 3 (buck3). This pin servos to a fixed voltage of 0.8V when the control loop is complete.", 8 OVSENS (in) "Overvoltage Protection Sense Input. OVSENSE should be connected through a 6.2k resistor to the input power connector and the drain of an external N-channel MOS pass transistor. When the voltage on this pin exceeds a preset (See Datasheet)", 9 LED_OV (in) "A resistor between this pin and the boosted LED backlight voltage sets the overvoltage limit on the boost output. If the boost voltage exceeds the programmed limit the LED boost converter will be disabled.", 13 OVGATE (out) "Overvoltage Protection Gate Output. Connect OVGATE to the gate pin of an external N-channel MOS pass transistor. The source of the transistor should be connected to VBUS and the drain should be connected to the product’(See Datasheet)", 18 SW (power) "Power Transmission (Switch) Pin for LED Boost Converter. See the “LED Backlight/Boost Operation” section for circuit hook-up and component selection. I2C is used to control LED driver enable. I2C default is LED dri(See Datasheet)", 19 SW (power) "Power Transmission (Switch) Pin for LED Boost Converter. See the “LED Backlight/Boost Operation” section for circuit hook-up and component selection. I2C is used to control LED driver enable. I2C default is LED dri(See Datasheet)", 20 SW (power) "Power Transmission (Switch) Pin for LED Boost Converter. See the “LED Backlight/Boost Operation” section for circuit hook-up and component selection. I2C is used to control LED driver enable. I2C default is LED dri(See Datasheet)", 23 VINLDO1 (power) "Input Supply of Low Dropout Linear Regulator 1 (LDO1). This pin should be bypassed to ground with a 1uF or greater ceramic capacitor.", 24 LDO2_FB (in) "Feedback Voltage Input for Low Dropout Linear Regulator 2 (LDO2). LDO2 output voltage is set using an external resistor divider between LDO2 and LDO2_FB.", 25 FB2 (in) "Feedback Input for Step-Down Switching Regulator 2 (buck2). This pin servos to a fixed voltage of 0.8V when the control loop is complete.", 26 FB1 (in) "Feedback Input for Step-Down Switching Regulator 1 (buck1). This pin servos to a fixed voltage of 0.8V when the control loop is complete.", 27 LDO1_FB (in) "Feedback Voltage Input for Low Dropout Linear Regulator 1 (LDO1). LDO1 output voltage is set using an external resistor divider between LDO1 and LDO1_FB.", 28 LDO1 (power) "Output of Low Dropout Linear Regulator 1. This pin must be bypassed to ground with a 1uF or greater ceramic capacitor.", 29 LDO2 (power) "Output of Low Dropout Linear Regulator 2. This pin must be bypassed to ground with a 1uF or greater ceramic capacitor.", 30 VINLDO2 (power) "Input Supply of Low Dropout Linear Regulator 2 (LDO2). This pin should be bypassed to ground with a 1uF or greater ceramic capacitor.", 31 SW2 (power) "Power Transmission (Switch) Pin for Step- Down Switching Regulator 2 (buck2).", 32 VIN12 (power) "Power Input for Step-Down Switching Regulators 1 and 2. This pin will generally be connected to VOUT .", 33 SW1 (power) "Power Transmission (Switch) Pin for Step- Down Switching Regulator 1 (buck1).", 37 IDGATE (hiz) "Ideal Diode Gate Connection. This pin controls the gate of an optional external P-channel MOSFET transistor used to supplement the internal ideal diode. The source of the P-channel MOSFET should be connected to VOUT and the (See Datasheet)", 38 BAT (power) "Single Cell Li-Ion Battery Pin. Depending on available power and load, a Li-Ion battery on BAT will either deliver system power to VOUT through the ideal diode or be charged from the battery charger.", 39 VOUT (power) "Output Voltage of the PowerPath Controller and Input Voltage of the Battery Charger. The majority of the portable product should be powered from VOUT . The LTC3577 will partition the available power between the external load (See Datasheet)", 40 VBUS (power) "USB Input Voltage. VBUS will usually be connected to the USB port of a computer or a DC output wall adapter. VBUS should be bypassed with a low impedance multilayer ceramic capacitor.", 41 ~{ACPR} (out) "Wall Adapter Present Output (Active Low). A low on this pin indicates that the wall adapter input comparator has had its input pulled above its input threshold (typically 4.3V). This pin can be used to drive the gate of an (See Datasheet)"
part B pins: 1 ILIM0 (in) "Input Current Control Pins. ILIM0 and ILIM1 control the input current limit. See Table 1 in the “USB PowerPath Controller” section. Both pins are pulled low by a weak current sink.", 2 ILIM1 (in) "Input Current Control Pins. ILIM0 and ILIM1 control the input current limit. See Table 1 in the “USB PowerPath Controller” section. Both pins are pulled low by a weak current sink.", 3 LED_FS (in) "A resistor between this pin and ground sets the full-scale output current of the ILED pin.", 10 DVCC (power) "Supply Voltage for I2C Lines. This pin sets the logic reference level of the LTC3577. A UVLO circuit on the DVCC pin forces all registers to all 0s whenever DVCC is <1V. Bypass to GND with a 0.1uF capacitor.", 11 SDA (in) "I2C Data Input. Serial data is shifted one bit per clock to control the LTC3577. The logic level for SDA is referenced to DVCC.", 12 SCL (in) "I2C Clock Input. The logic level for SCL is referenced to DVCC.", 14 PWR_ON (in) "Logic Input Used to Keep Buck DC/DCs Enabled After Power-Up. May also be used to enable the buck DC/DCs directly (sequence = buck1 ? buck2 ? buck3). See the “Pushbutton Interface Operation” section for more information.", 15 ~{ON} (in) "Pushbutton Input. A weak internal pull-up forces O\N\ high when left floating. A normally open pushbutton is connected from O\N\ to ground to force a low state on this pin.", 16 PBSTAT (oc) "Open-drain output is a de-bounced and buffered version of O\N\ to be used for processor interrupts.", 17 WAKE (hiz) "Open-Drain Output. The WAKE pin indicates the operating state of the buck DC/DCs. If WAKE is Hi-Z, the buck DC/DCs are enabled and either up or powering up. A low on WAKE indicates that the buck DC/DCs are either powered (See Datasheet)", 21 PG_DCDC (hiz) "Open-Drain Output. PG_DCDC goes high impedance 230ms after all buck DC/DCs are in regulation (within 8% of final value).", 22 ILED (out) "Series LED Backlight Current Sink Output. This pin is connected to the cathode end of the series LED backlight string. The current drawn through the series LEDs can be programmed via a 6-bit 60dB DAC and dimmed via an (See Datasheet)", 34 NTCBIAS (power) "Output Bias Voltage for NTC. A resistor from this pin to the NTC pin will bias the NTC thermistor.", 35 NTC (in) "The NTC pin connects to a battery’s thermistor to determine if the battery is too hot or too cold to charge. If the battery’s temperature is out of range, charging is paused until it drops back into range. A low dr(See Datasheet)", 36 PROG (in) "Charge Current Program and Charge Current Monitor Pin. Connecting a resistor from PROG to ground programs the charge current: ICHG = 1000V/RPROG (A) If sufficient input power is available in constant current mode, this pin (See Datasheet)", 42 VC (in) "High Voltage Buck Regulator Control Pin. This pin can be used to drive the VC pin of an approved external high voltage buck switching regulator. The VC pin is designed to work with the LT(R)3480, LT3653 and LT3505. Consult (See Datasheet)", 43 CLPROG (in) "Input Current Program and Input Current Monitor Pin. A resistor from CLPROG to ground determines the upper limit of the current drawn from the VBUS pin (i.e., the input current limit). A precise fraction of the input (See Datasheet)", 44 ~{CHRG} (hiz) "Open-Drain Charge Status Output. The C\H\R\G\ pin indicates the status of the battery charger. If C\H\R\G\ is high then the charger is near the float voltage (charge current less than 1/10th programmed charge current) or (See Datasheet)", 45 EP (power) "The exposed package pad is ground and must be soldered to PCB ground for electrical contact and rated thermal performance."

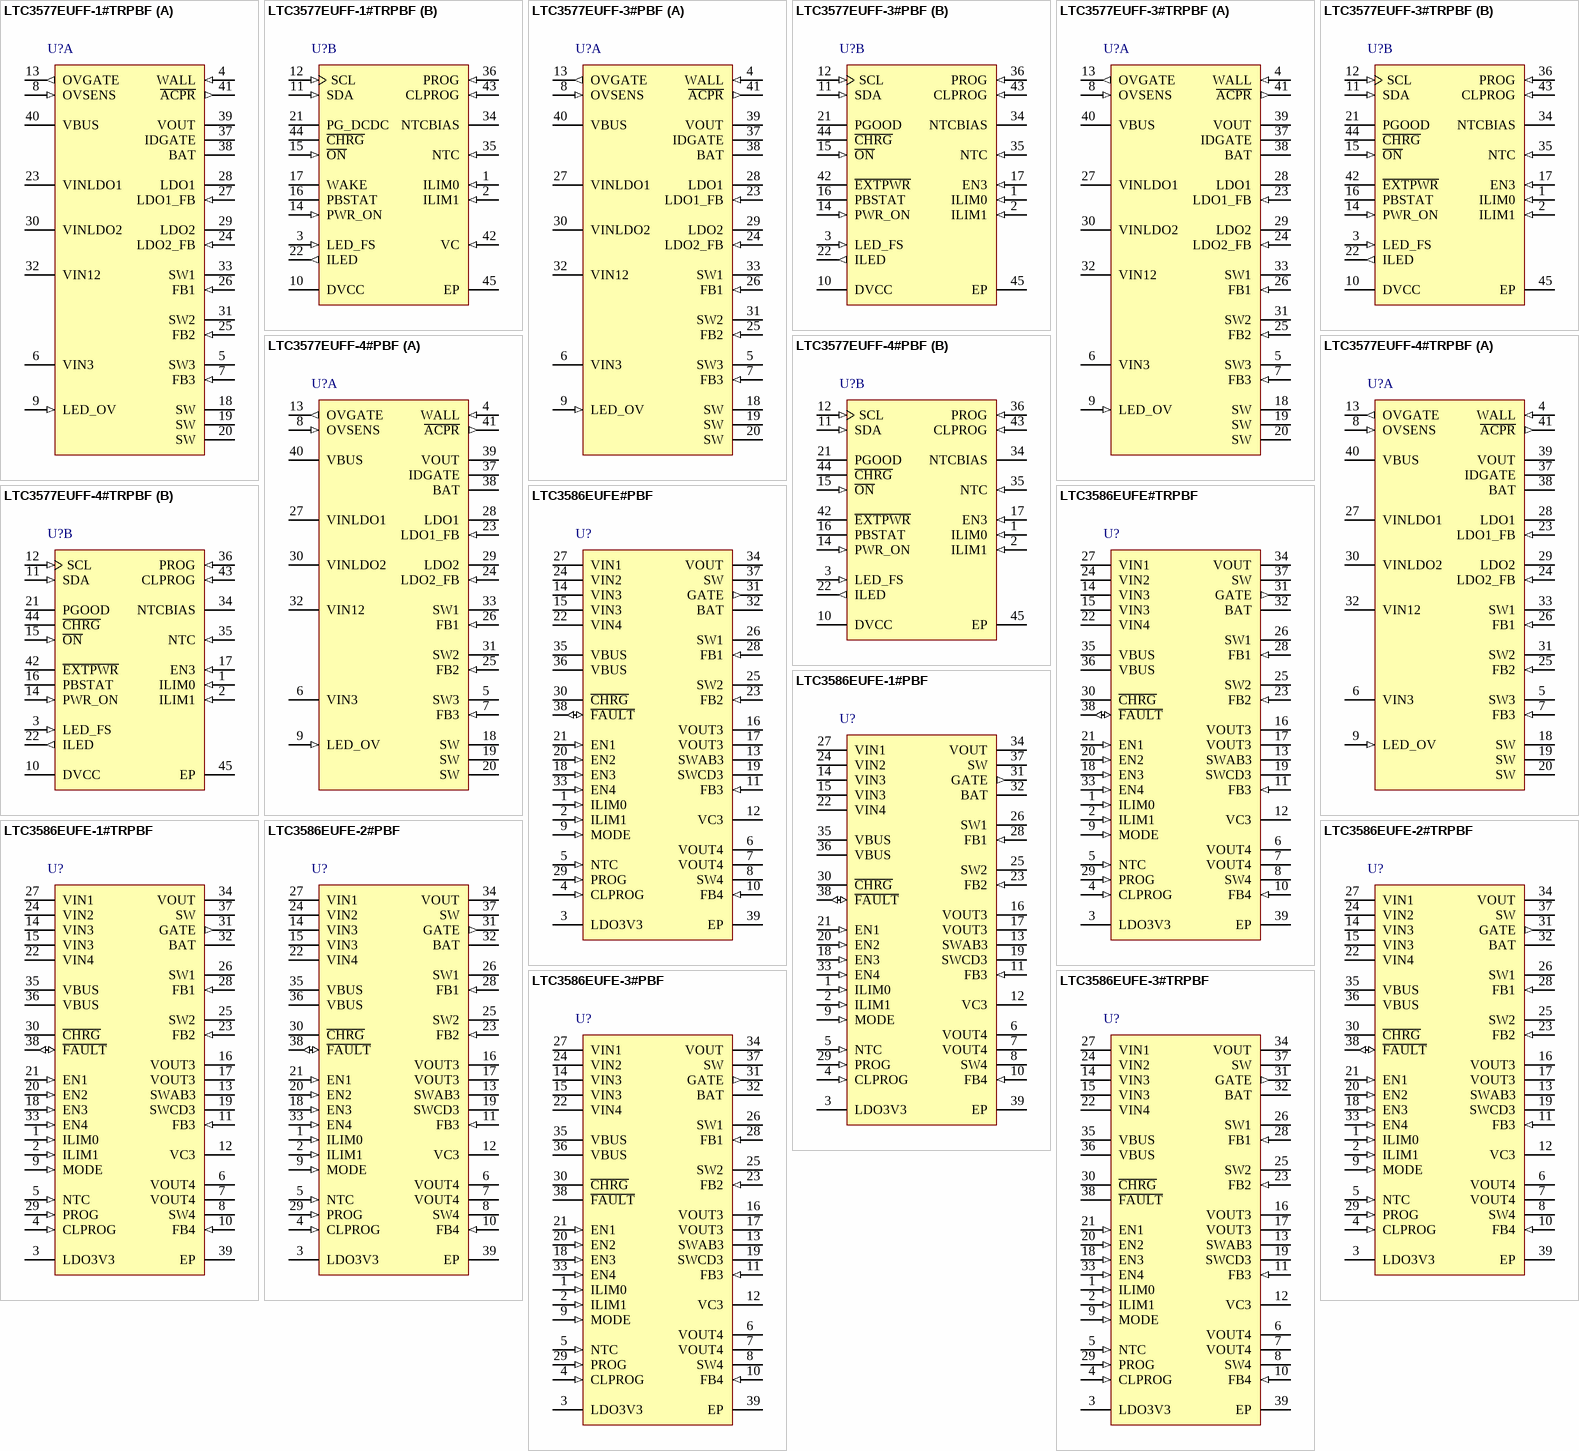
[diagram p11: symbols LTC3577EUFF-1#TRPBF to LTC3586EUFE-3#TRPBF]